# Altium schematic symbol library MPU-9250_Header.SchLib: 1 symbol
Pins are listed as number, name and electrical type; pins without a type are passive.

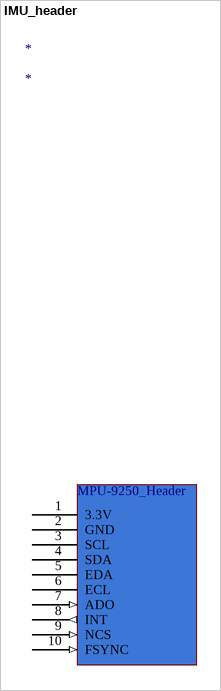
[diagram p0: symbol IMU_header]

## IMU_header
designator *
footprint PCBComponent_1
pins: 1 3.3V (power), 2 GND (power), 3 SCL (oc), 4 SDA (oc), 5 EDA (oc), 6 ECL (oc), 7 ADO (in), 8 INT (out), 9 NCS (in), 10 FSYNC (in)
text: MPU-9250_Header